# Altium schematic symbol library Digital.SchLib: 61 symbols (part 3 of 3)
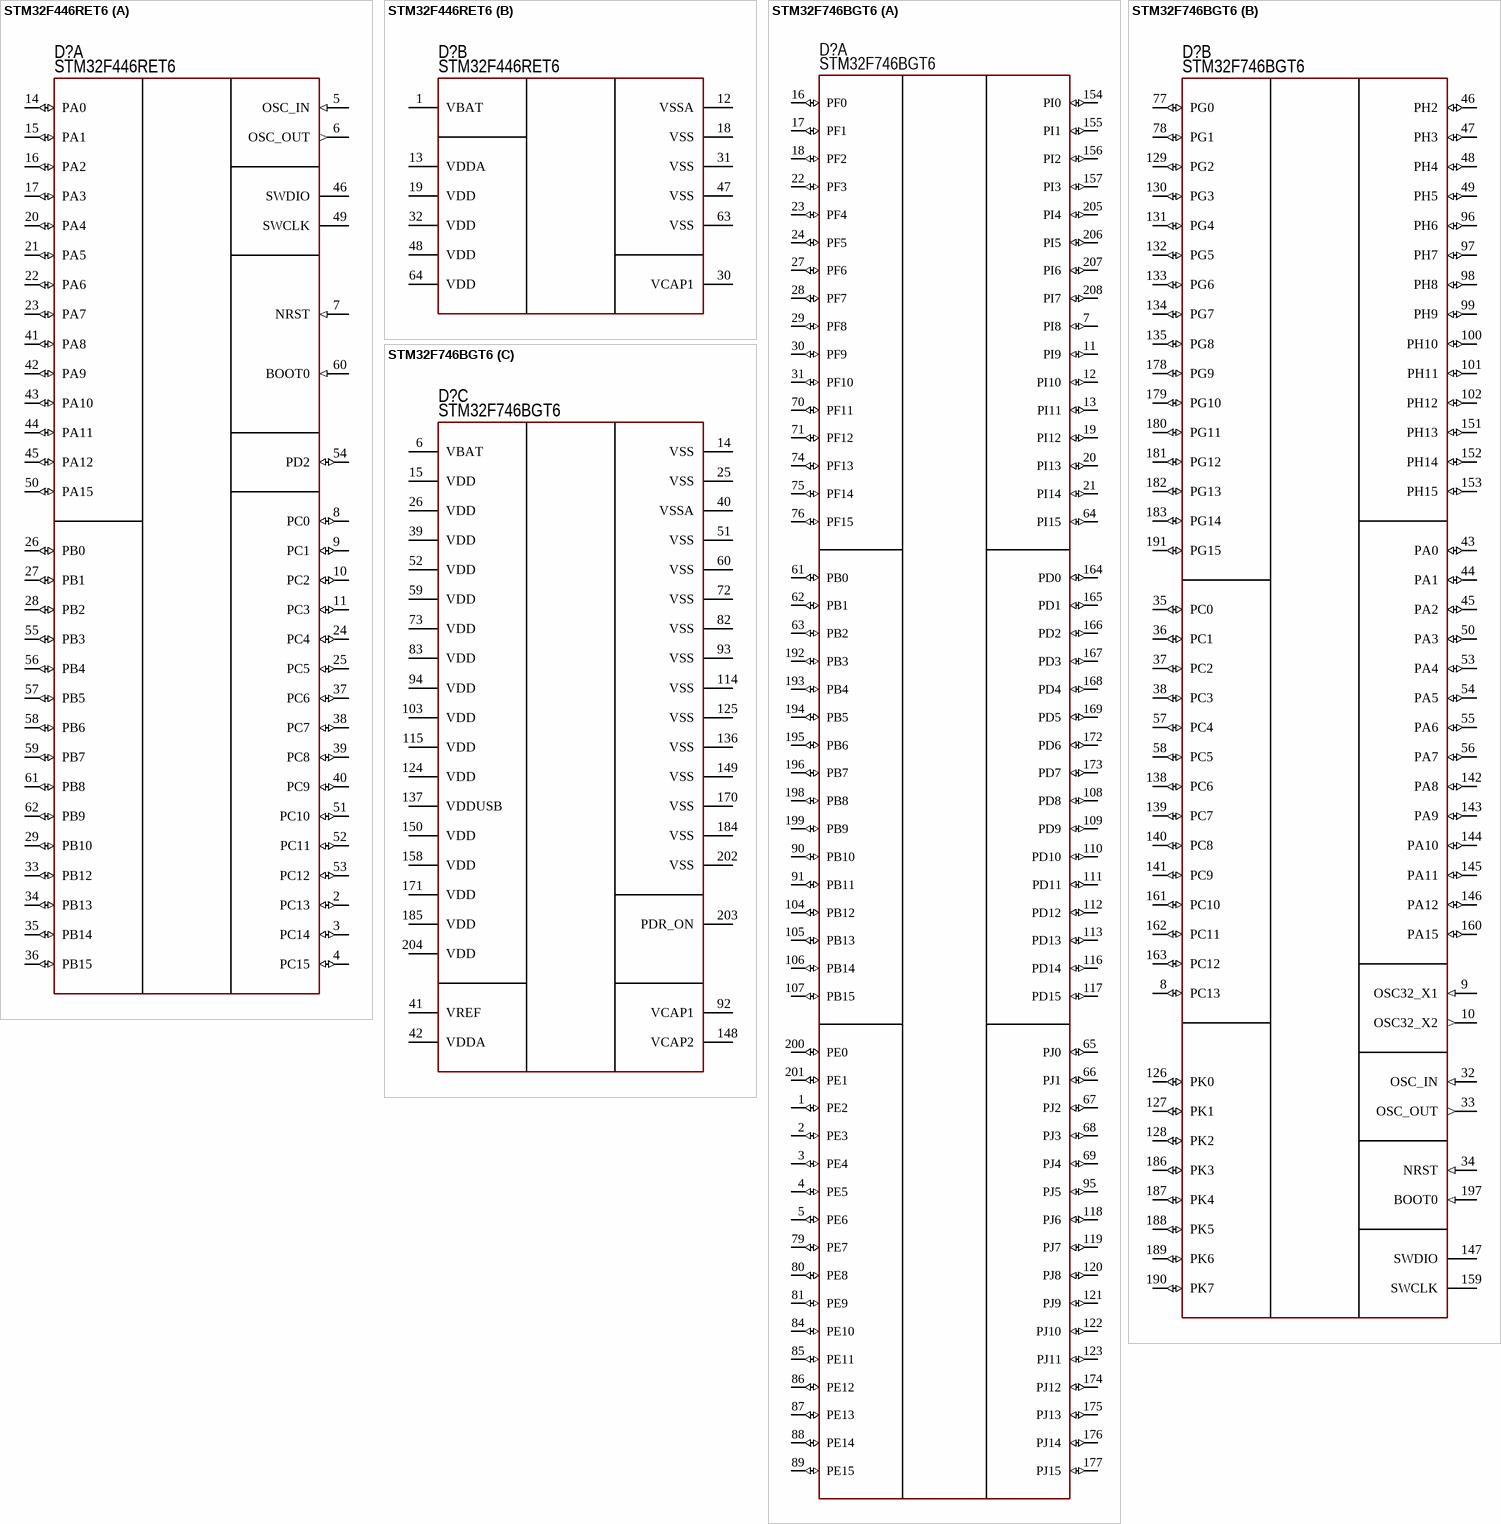
[diagram p30: symbols STM32F446RET6 to STM32F746BGT6]

## STM32F446RET6
designator D?
Cortex-M4; Manufacturer: STMicroelectronics; Model: STM32F446RET6; HelpURL: https://www.digikey.com/product-detail/en/stmicroelectronics/STM32F446RET6/497-15376-ND/5175962; ComponentKind: 64-LQFP
footprint 64-LQFP (Thin QFP, 64-Leads, Body 10x10mm, Pitch 0.5mm, IPC Medium Density)
part A pins: 2 PC13 (io), 3 PC14 (io), 4 PC15 (io), 5 OSC_IN (in), 6 OSC_OUT (out), 7 NRST (in), 8 PC0 (io), 9 PC1 (io), 10 PC2 (io), 11 PC3 (io), 14 PA0 (io), 15 PA1 (io), 16 PA2 (io), 17 PA3 (io), 20 PA4 (io), 21 PA5 (io), 22 PA6 (io), 23 PA7 (io), 24 PC4 (io), 25 PC5 (io), 26 PB0 (io), 27 PB1 (io), 28 PB2 (io), 29 PB10 (io), 33 PB12 (io), 34 PB13 (io), 35 PB14 (io), 36 PB15 (io), 37 PC6 (io), 38 PC7 (io), 39 PC8 (io), 40 PC9 (io), 41 PA8 (io), 42 PA9 (io), 43 PA10 (io), 44 PA11 (io), 45 PA12 (io), 46 SWDIO, 49 SWCLK, 50 PA15 (io), 51 PC10 (io), 52 PC11 (io), 53 PC12 (io), 54 PD2 (io), 55 PB3 (io), 56 PB4 (io), 57 PB5 (io), 58 PB6 (io), 59 PB7 (io), 60 BOOT0 (in), 61 PB8 (io), 62 PB9 (io)
part B pins: 1 VBAT, 12 VSSA, 13 VDDA, 18 VSS, 19 VDD, 30 VCAP1, 31 VSS, 32 VDD, 47 VSS, 48 VDD, 63 VSS, 64 VDD

## STM32F746BGT6
designator D?
Cortex-M7; Manufacturer: STMicroelectronics; Model: STM32F746BGT6; Datasheet: https://www.digikey.com/products/en?keywords=STM32F746BGT6; ComponentKind: 208-LQFP
footprint 208-LQFP (QFP, 208-Leads, Body 28x28mm, Pitch 0.5mm, IPC Medium Density)
part A pins: 1 PE2 (io), 2 PE3 (io), 3 PE4 (io), 4 PE5 (io), 5 PE6 (io), 7 PI8 (io), 11 PI9 (io), 12 PI10 (io), 13 PI11 (io), 16 PF0 (io), 17 PF1 (io), 18 PF2 (io), 19 PI12 (io), 20 PI13 (io), 21 PI14 (io), 22 PF3 (io), 23 PF4 (io), 24 PF5 (io), 27 PF6 (io), 28 PF7 (io), 29 PF8 (io), 30 PF9 (io), 31 PF10 (io), 61 PB0 (io), 62 PB1 (io), 63 PB2 (io), 64 PI15 (io), 65 PJ0 (io), 66 PJ1 (io), 67 PJ2 (io), 68 PJ3 (io), 69 PJ4 (io), 70 PF11 (io), 71 PF12 (io), 74 PF13 (io), 75 PF14 (io), 76 PF15 (io), 79 PE7 (io), 80 PE8 (io), 81 PE9 (io), 84 PE10 (io), 85 PE11 (io), 86 PE12 (io), 87 PE13 (io), 88 PE14 (io), 89 PE15 (io), 90 PB10 (io), 91 PB11 (io), 95 PJ5 (io), 104 PB12 (io), 105 PB13 (io), 106 PB14 (io), 107 PB15 (io), 108 PD8 (io), 109 PD9 (io), 110 PD10 (io), 111 PD11 (io), 112 PD12 (io), 113 PD13 (io), 116 PD14 (io), 117 PD15 (io), 118 PJ6 (io), 119 PJ7 (io), 120 PJ8 (io), 121 PJ9 (io), 122 PJ10 (io), 123 PJ11 (io), 154 PI0 (io), 155 PI1 (io), 156 PI2 (io), 157 PI3 (io), 164 PD0 (io), 165 PD1 (io), 166 PD2 (io), 167 PD3 (io), 168 PD4 (io), 169 PD5 (io), 172 PD6 (io), 173 PD7 (io), 174 PJ12 (io), 175 PJ13 (io), 176 PJ14 (io), 177 PJ15 (io), 192 PB3 (io), 193 PB4 (io), 194 PB5 (io), 195 PB6 (io), 196 PB7 (io), 198 PB8 (io), 199 PB9 (io), 200 PE0 (io), 201 PE1 (io), 205 PI4 (io), 206 PI5 (io), 207 PI6 (io), 208 PI7 (io)
part B pins: 8 PC13 (io), 9 OSC32_X1 (in), 10 OSC32_X2 (out), 32 OSC_IN (in), 33 OSC_OUT (out), 34 NRST (in), 35 PC0 (io), 36 PC1 (io), 37 PC2 (io), 38 PC3 (io), 43 PA0 (io), 44 PA1 (io), 45 PA2 (io), 46 PH2 (io), 47 PH3 (io), 48 PH4 (io), 49 PH5 (io), 50 PA3 (io), 53 PA4 (io), 54 PA5 (io), 55 PA6 (io), 56 PA7 (io), 57 PC4 (io), 58 PC5 (io), 77 PG0 (io), 78 PG1 (io), 96 PH6 (io), 97 PH7 (io), 98 PH8 (io), 99 PH9 (io), 100 PH10 (io), 101 PH11 (io), 102 PH12 (io), 126 PK0 (io), 127 PK1 (io), 128 PK2 (io), 129 PG2 (io), 130 PG3 (io), 131 PG4 (io), 132 PG5 (io), 133 PG6 (io), 134 PG7 (io), 135 PG8 (io), 138 PC6 (io), 139 PC7 (io), 140 PC8 (io), 141 PC9 (io), 142 PA8 (io), 143 PA9 (io), 144 PA10 (io), 145 PA11 (io), 146 PA12 (io), 147 SWDIO, 151 PH13 (io), 152 PH14 (io), 153 PH15 (io), 159 SWCLK, 160 PA15 (io), 161 PC10 (io), 162 PC11 (io), 163 PC12 (io), 178 PG9 (io), 179 PG10 (io), 180 PG11 (io), 181 PG12 (io), 182 PG13 (io), 183 PG14 (io), 186 PK3 (io), 187 PK4 (io), 188 PK5 (io), 189 PK6 (io), 190 PK7 (io), 191 PG15 (io), 197 BOOT0 (in)
part C pins: 6 VBAT, 14 VSS, 15 VDD, 25 VSS, 26 VDD, 39 VDD, 40 VSSA, 41 VREF, 42 VDDA, 51 VSS, 52 VDD, 59 VDD, 60 VSS, 72 VSS, 73 VDD, 82 VSS, 83 VDD, 92 VCAP1, 93 VSS, 94 VDD, 103 VDD, 114 VSS, 115 VDD, 124 VDD, 125 VSS, 136 VSS, 137 VDDUSB, 148 VCAP2, 149 VSS, 150 VDD, 158 VDD, 170 VSS, 171 VDD, 184 VSS, 185 VDD, 202 VSS, 203 PDR_ON, 204 VDD

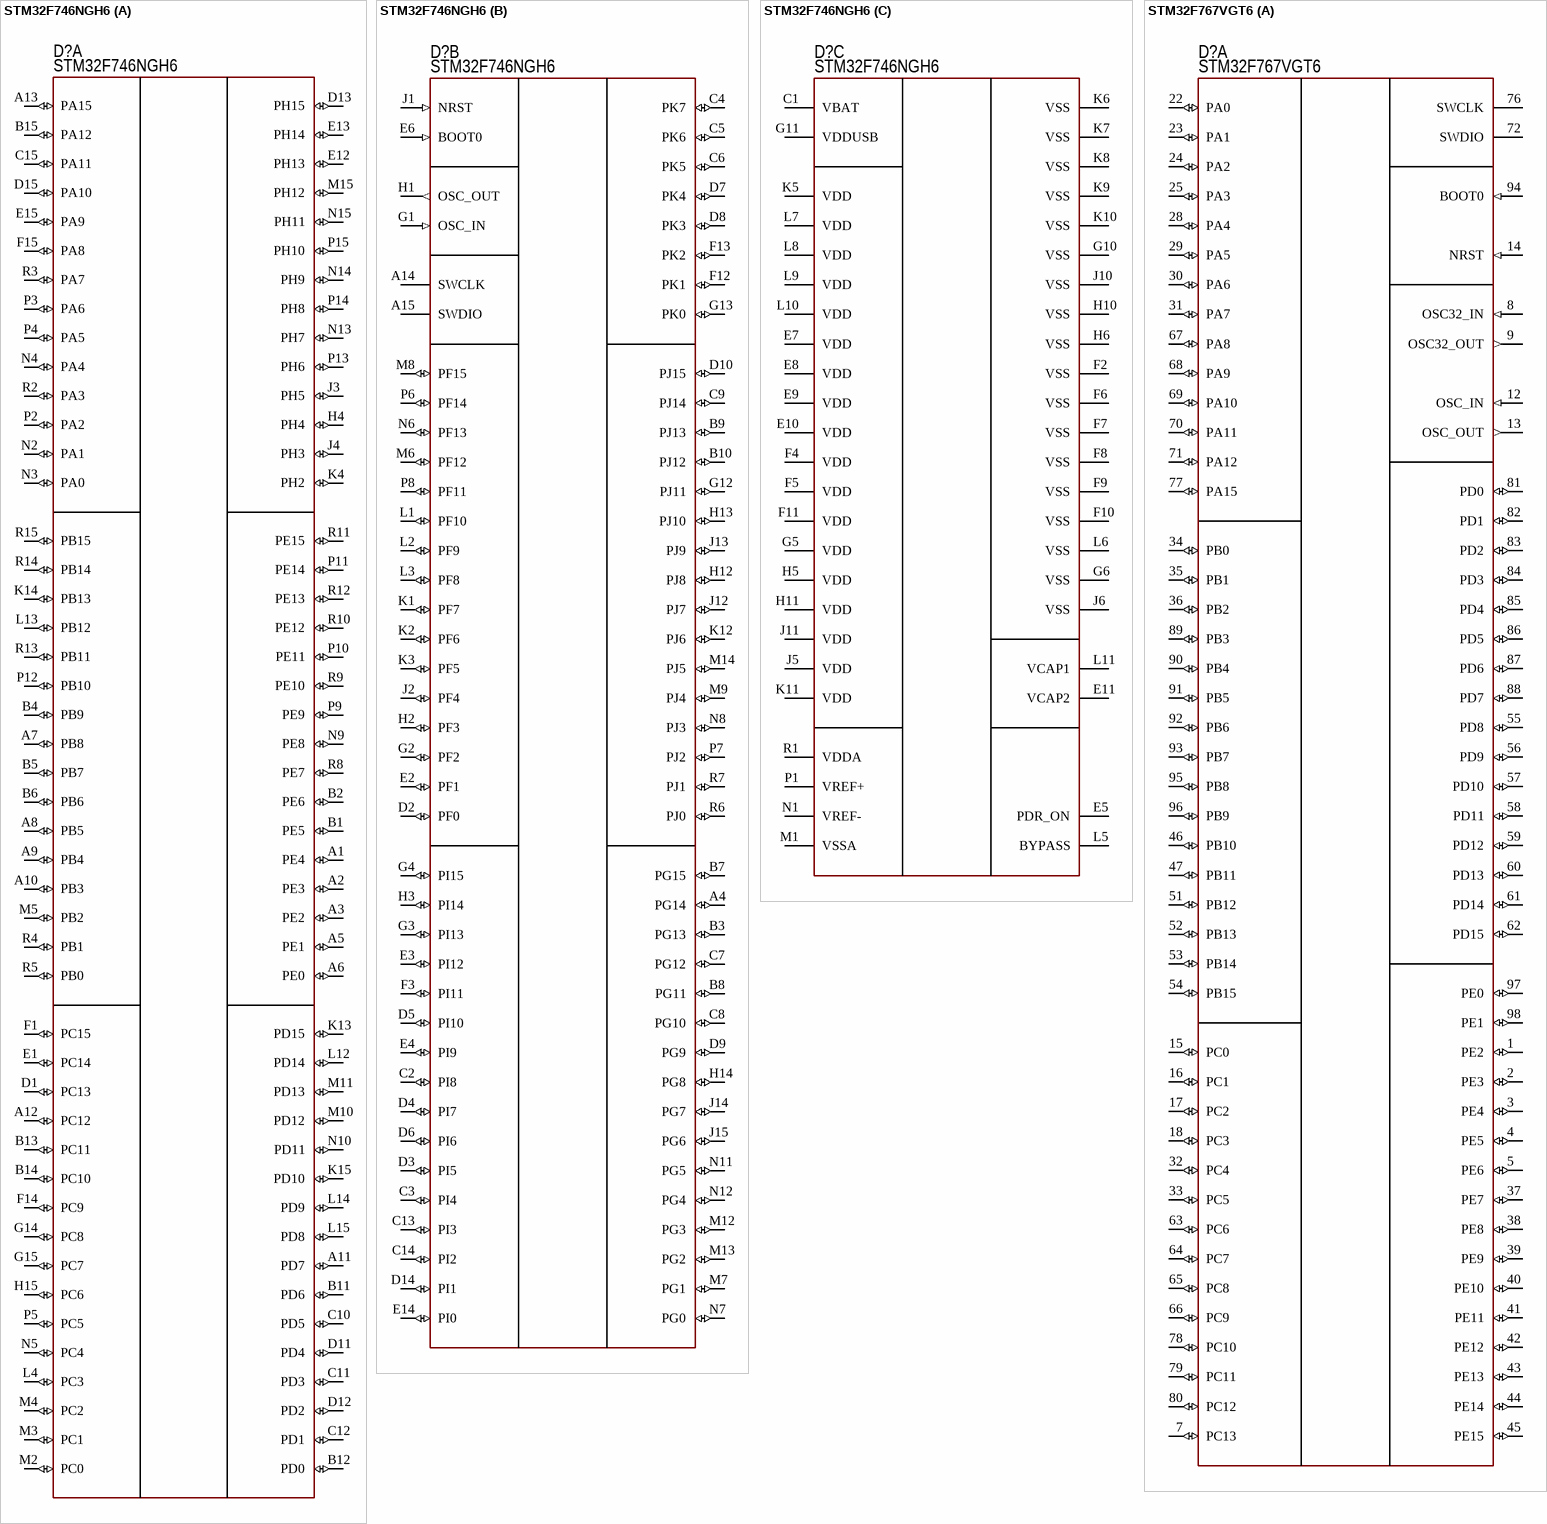
[diagram p21: symbols STM32F746NGH6 to STM32F767VGT6]

## STM32F746NGH6
designator D?
Cortex-M7; Manufacturer: STMicroelectronics; Model: STM32F746NGH6; ComponentKind: 216-TFBGA; HelpURL: https://www.digikey.com/products/en?keywords=STM32F746NGH6
footprint 216-TFBGA (BGA, 216-Balls, Body 13x13mm, Pitch 0.8mm)
part A pins: A1 PE4 (io), A2 PE3 (io), A3 PE2 (io), A5 PE1 (io), A6 PE0 (io), A7 PB8 (io), A8 PB5 (io), A9 PB4 (io), A10 PB3 (io), A11 PD7 (io), A12 PC12 (io), A13 PA15 (io), B1 PE5 (io), B2 PE6 (io), B4 PB9 (io), B5 PB7 (io), B6 PB6 (io), B11 PD6 (io), B12 PD0 (io), B13 PC11 (io), B14 PC10 (io), B15 PA12 (io), C10 PD5 (io), C11 PD3 (io), C12 PD1 (io), C15 PA11 (io), D1 PC13 (io), D11 PD4 (io), D12 PD2 (io), D13 PH15 (io), D15 PA10 (io), E1 PC14 (io), E12 PH13 (io), E13 PH14 (io), E15 PA9 (io), F1 PC15 (io), F14 PC9 (io), F15 PA8 (io), G14 PC8 (io), G15 PC7 (io), H4 PH4 (io), H15 PC6 (io), J3 PH5 (io), J4 PH3 (io), K4 PH2 (io), K13 PD15 (io), K14 PB13 (io), K15 PD10 (io), L4 PC3 (io), L12 PD14 (io), L13 PB12 (io), L14 PD9 (io), L15 PD8 (io), M2 PC0 (io), M3 PC1 (io), M4 PC2 (io), M5 PB2 (io), M10 PD12 (io), M11 PD13 (io), M15 PH12 (io), N2 PA1 (io), N3 PA0 (io), N4 PA4 (io), N5 PC4 (io), N9 PE8 (io), N10 PD11 (io), N13 PH7 (io), N14 PH9 (io), N15 PH11 (io), P2 PA2 (io), P3 PA6 (io), P4 PA5 (io), P5 PC5 (io), P9 PE9 (io), P10 PE11 (io), P11 PE14 (io), P12 PB10 (io), P13 PH6 (io), P14 PH8 (io), P15 PH10 (io), R2 PA3 (io), R3 PA7 (io), R4 PB1 (io), R5 PB0 (io), R8 PE7 (io), R9 PE10 (io), R10 PE12 (io), R11 PE15 (io), R12 PE13 (io), R13 PB11 (io), R14 PB14 (io), R15 PB15 (io)
part B pins: A4 PG14 (io), A14 SWCLK, A15 SWDIO, B3 PG13 (io), B7 PG15 (io), B8 PG11 (io), B9 PJ13 (io), B10 PJ12 (io), C2 PI8 (io), C3 PI4 (io), C4 PK7 (io), C5 PK6 (io), C6 PK5 (io), C7 PG12 (io), C8 PG10 (io), C9 PJ14 (io), C13 PI3 (io), C14 PI2 (io), D2 PF0 (io), D3 PI5 (io), D4 PI7 (io), D5 PI10 (io), D6 PI6 (io), D7 PK4 (io), D8 PK3 (io), D9 PG9 (io), D10 PJ15 (io), D14 PI1 (io), E2 PF1 (io), E3 PI12 (io), E4 PI9 (io), E6 BOOT0 (in), E14 PI0 (io), F3 PI11 (io), F12 PK1 (io), F13 PK2 (io), G1 OSC_IN (in), G2 PF2 (io), G3 PI13 (io), G4 PI15 (io), G12 PJ11 (io), G13 PK0 (io), H1 OSC_OUT (out), H2 PF3 (io), H3 PI14 (io), H12 PJ8 (io), H13 PJ10 (io), H14 PG8 (io), J1 NRST (in), J2 PF4 (io), J12 PJ7 (io), J13 PJ9 (io), J14 PG7 (io), J15 PG6 (io), K1 PF7 (io), K2 PF6 (io), K3 PF5 (io), K12 PJ6 (io), L1 PF10 (io), L2 PF9 (io), L3 PF8 (io), M6 PF12 (io), M7 PG1 (io), M8 PF15 (io), M9 PJ4 (io), M12 PG3 (io), M13 PG2 (io), M14 PJ5 (io), N6 PF13 (io), N7 PG0 (io), N8 PJ3 (io), N11 PG5 (io), N12 PG4 (io), P6 PF14 (io), P7 PJ2 (io), P8 PF11 (io), R6 PJ0 (io), R7 PJ1 (io)
part C pins: C1 VBAT (power), E5 PDR_ON (power), E7 VDD (power), E8 VDD (power), E9 VDD (power), E10 VDD (power), E11 VCAP2 (power), F2 VSS (power), F4 VDD (power), F5 VDD (power), F6 VSS (power), F7 VSS (power), F8 VSS (power), F9 VSS (power), F10 VSS (power), F11 VDD (power), G5 VDD (power), G6 VSS (power), G10 VSS (power), G11 VDDUSB (power), H5 VDD (power), H6 VSS (power), H10 VSS (power), H11 VDD (power), J5 VDD (power), J6 VSS (power), J10 VSS (power), J11 VDD (power), K5 VDD (power), K6 VSS (power), K7 VSS (power), K8 VSS (power), K9 VSS (power), K10 VSS (power), K11 VDD (power), L5 BYPASS (power), L6 VSS (power), L7 VDD (power), L8 VDD (power), L9 VDD (power), L10 VDD (power), L11 VCAP1 (power), M1 VSSA (power), N1 VREF- (power), P1 VREF+ (power), R1 VDDA (power)

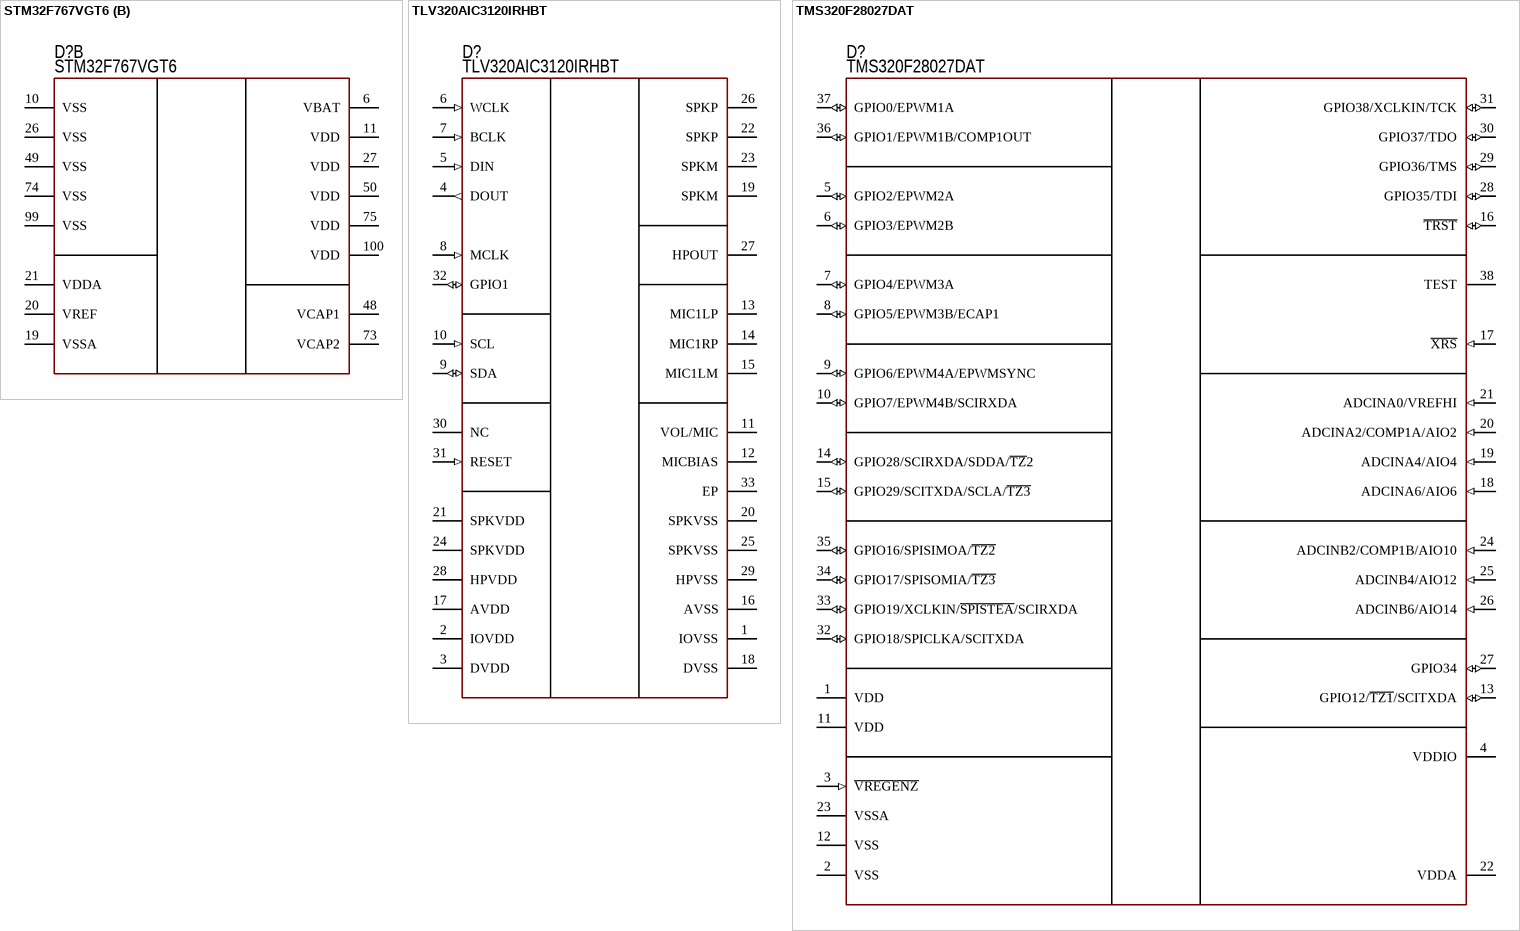
[diagram p22: symbols STM32F767VGT6 to TMS320F28027DAT]

## STM32F767VGT6
designator D?
Cortex-M7; Manufacturer: STMicroelectronics; Model: STM32F767VGT6; HelpURL: https://www.digikey.com/products/en?keywords=STM32F767VGT6; ComponentKind: 100-LQFP
footprint 100-LQFP (Thin QFP, 100-Leads, Body 14x14mm, Pitch 0.5mm, IPC Medium Density)
part A pins: 1 PE2 (io), 2 PE3 (io), 3 PE4 (io), 4 PE5 (io), 5 PE6 (io), 7 PC13 (io), 8 OSC32_IN (in), 9 OSC32_OUT (out), 12 OSC_IN (in), 13 OSC_OUT (out), 14 NRST (in), 15 PC0 (io), 16 PC1 (io), 17 PC2 (io), 18 PC3 (io), 22 PA0 (io), 23 PA1 (io), 24 PA2 (io), 25 PA3 (io), 28 PA4 (io), 29 PA5 (io), 30 PA6 (io), 31 PA7 (io), 32 PC4 (io), 33 PC5 (io), 34 PB0 (io), 35 PB1 (io), 36 PB2 (io), 37 PE7 (io), 38 PE8 (io), 39 PE9 (io), 40 PE10 (io), 41 PE11 (io), 42 PE12 (io), 43 PE13 (io), 44 PE14 (io), 45 PE15 (io), 46 PB10 (io), 47 PB11 (io), 51 PB12 (io), 52 PB13 (io), 53 PB14 (io), 54 PB15 (io), 55 PD8 (io), 56 PD9 (io), 57 PD10 (io), 58 PD11 (io), 59 PD12 (io), 60 PD13 (io), 61 PD14 (io), 62 PD15 (io), 63 PC6 (io), 64 PC7 (io), 65 PC8 (io), 66 PC9 (io), 67 PA8 (io), 68 PA9 (io), 69 PA10 (io), 70 PA11 (io), 71 PA12 (io), 72 SWDIO, 76 SWCLK, 77 PA15 (io), 78 PC10 (io), 79 PC11 (io), 80 PC12 (io), 81 PD0 (io), 82 PD1 (io), 83 PD2 (io), 84 PD3 (io), 85 PD4 (io), 86 PD5 (io), 87 PD6 (io), 88 PD7 (io), 89 PB3 (io), 90 PB4 (io), 91 PB5 (io), 92 PB6 (io), 93 PB7 (io), 94 BOOT0 (in), 95 PB8 (io), 96 PB9 (io), 97 PE0 (io), 98 PE1 (io)
part B pins: 6 VBAT (power), 10 VSS (power), 11 VDD (power), 19 VSSA (power), 20 VREF (power), 21 VDDA (power), 26 VSS (power), 27 VDD (power), 48 VCAP1 (power), 49 VSS (power), 50 VDD (power), 73 VCAP2 (power), 74 VSS (power), 75 VDD (power), 99 VSS (power), 100 VDD (power)

## TLV320AIC3120IRHBT
designator D?
Codec; Manufacturer: Texas Instruments; Model: TLV320AIC3120IRHBT; ComponentKind: 32-VQFN; HelpURL: https://www.digikey.com/product-detail/en/texas-instruments/TLV320AIC3120IRHBT/296-25815-1-ND/2233636
footprint 32-VQFN (5x5 mm) (QFN, 32-Leads, Body 5x5mm, Pitch 0.5mm, Thermal Pad 3.45x3.45mm, TI Recommended)
pins: 1 IOVSS, 2 IOVDD, 3 DVDD, 4 DOUT (out), 5 DIN (in), 6 WCLK (in), 7 BCLK (in), 8 MCLK (in), 9 SDA (io), 10 SCL (in), 11 VOL/MIC, 12 MICBIAS, 13 MIC1LP, 14 MIC1RP, 15 MIC1LM, 16 AVSS, 17 AVDD, 18 DVSS, 19 SPKM, 20 SPKVSS, 21 SPKVDD, 22 SPKP, 23 SPKM, 24 SPKVDD, 25 SPKVSS, 26 SPKP, 27 HPOUT, 28 HPVDD, 29 HPVSS, 30 NC, 31 RESET (in), 32 GPIO1 (io), 33 EP

## TMS320F28027DAT
designator D?
DSP; Manufacturer: Texas Instruments; Model: TMS320F28027DAT; HelpURL: https://www.digikey.com/product-detail/en/texas-instruments/TMS320F28027DAT/296-27294-5-ND/2232671; ComponentKind: 38-TSSOP
footprint 38-TSSOP
pins: 1 VDD (power), 2 VSS (power), 3 ~{VREGENZ} (in), 4 VDDIO (power), 5 GPIO2/EPWM2A (io), 6 GPIO3/EPWM2B (io), 7 GPIO4/EPWM3A (io), 8 GPIO5/EPWM3B/ECAP1 (io), 9 GPIO6/EPWM4A/EPWMSYNC (io), 10 GPIO7/EPWM4B/SCIRXDA (io), 11 VDD (power), 12 VSS (power), 13 GPIO12/~{TZ1}/SCITXDA (io), 14 GPIO28/SCIRXDA/SDDA/~{TZ}2 (io), 15 GPIO29/SCITXDA/SCLA/~{TZ3} (io), 16 ~{TRST} (io), 17 ~{XRS} (in), 18 ADCINA6/AIO6 (in), 19 ADCINA4/AIO4 (in), 20 ADCINA2/COMP1A/AIO2 (in), 21 ADCINA0/VREFHI (in), 22 VDDA (power), 23 VSSA (power), 24 ADCINB2/COMP1B/AIO10 (in), 25 ADCINB4/AIO12 (in), 26 ADCINB6/AIO14 (in), 27 GPIO34 (io), 28 GPIO35/TDI (io), 29 GPIO36/TMS (io), 30 GPIO37/TDO (io), 31 GPIO38/XCLKIN/TCK (io), 32 GPIO18/SPICLKA/SCITXDA (io), 33 GPIO19/XCLKIN/~{SPISTEA}/SCIRXDA (io), 34 GPIO17/SPISOMIA/~{TZ3} (io), 35 GPIO16/SPISIMOA/~{TZ2} (io), 36 GPIO1/EPWM1B/COMP1OUT (io), 37 GPIO0/EPWM1A (io), 38 TEST

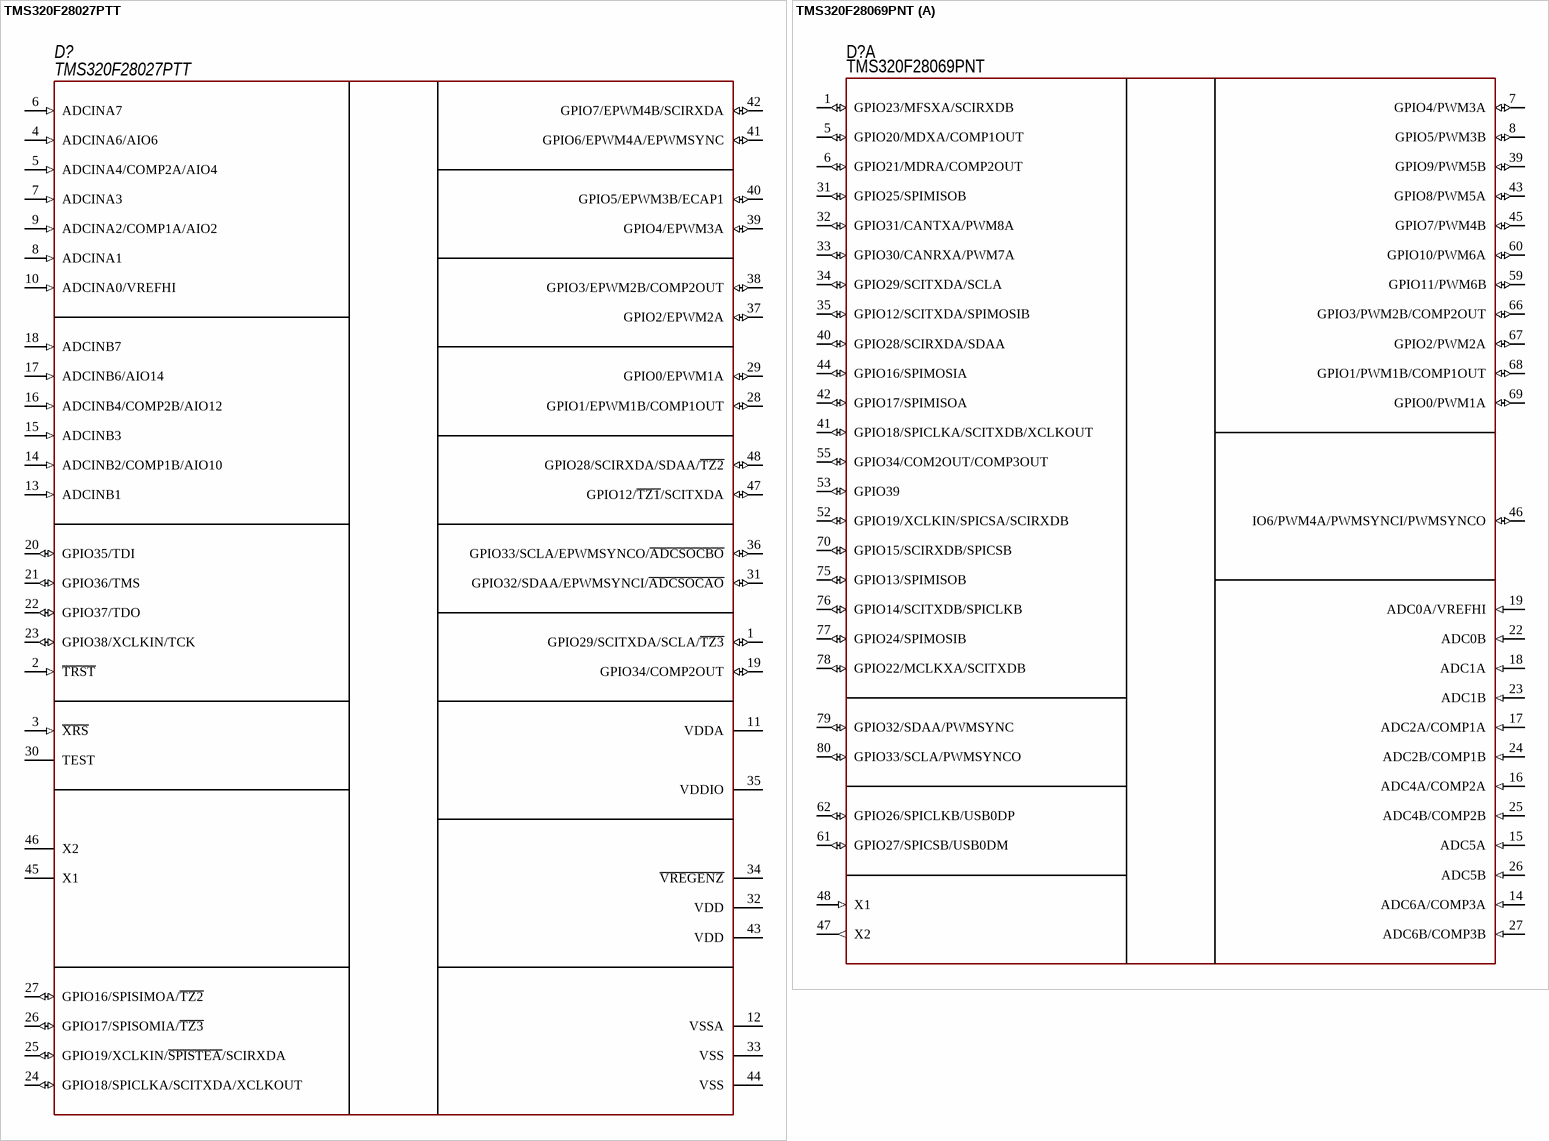
[diagram p23: symbols TMS320F28027PTT to TMS320F28069PNT]

## TMS320F28027PTT
designator D?
DSP; Manufacturer: Texas Instruments; Model: TMS320F28027PTT; HelpURL: https://www.digikey.com/product-detail/en/texas-instruments/TMS320F28027PTT/296-27212-ND/2232674; ComponentKind: 48-LQFP
footprint 48-LQFP (QFP, 48-Leads, Body 7x7mm, Pitch 0.5mm, IPC Medium Density)
pins: 1 GPIO29/SCITXDA/SCLA/~{TZ3} (io), 2 ~{TRST} (in), 3 ~{XRS} (in), 4 ADCINA6/AIO6 (in), 5 ADCINA4/COMP2A/AIO4 (in), 6 ADCINA7 (in), 7 ADCINA3 (in), 8 ADCINA1 (in), 9 ADCINA2/COMP1A/AIO2 (in), 10 ADCINA0/VREFHI (in), 11 VDDA, 12 VSSA, 13 ADCINB1 (in), 14 ADCINB2/COMP1B/AIO10 (in), 15 ADCINB3 (in), 16 ADCINB4/COMP2B/AIO12 (in), 17 ADCINB6/AIO14 (in), 18 ADCINB7 (in), 19 GPIO34/COMP2OUT (io), 20 GPIO35/TDI (io), 21 GPIO36/TMS (io), 22 GPIO37/TDO (io), 23 GPIO38/XCLKIN/TCK (io), 24 GPIO18/SPICLKA/SCITXDA/XCLKOUT (io), 25 GPIO19/XCLKIN/~{SPISTEA}/SCIRXDA (io), 26 GPIO17/SPISOMIA/~{TZ3} (io), 27 GPIO16/SPISIMOA/~{TZ2} (io), 28 GPIO1/EPWM1B/COMP1OUT (io), 29 GPIO0/EPWM1A (io), 30 TEST, 31 GPIO32/SDAA/EPWMSYNCI/~{ADCSOCAO} (io), 32 VDD, 33 VSS, 34 ~{VREGENZ}, 35 VDDIO, 36 GPIO33/SCLA/EPWMSYNCO/~{ADCSOCBO} (io), 37 GPIO2/EPWM2A (io), 38 GPIO3/EPWM2B/COMP2OUT (io), 39 GPIO4/EPWM3A (io), 40 GPIO5/EPWM3B/ECAP1 (io), 41 GPIO6/EPWM4A/EPWMSYNC (io), 42 GPIO7/EPWM4B/SCIRXDA (io), 43 VDD, 44 VSS, 45 X1, 46 X2, 47 GPIO12/~{TZ1}/SCITXDA (io), 48 GPIO28/SCIRXDA/SDAA/~{TZ2} (io)

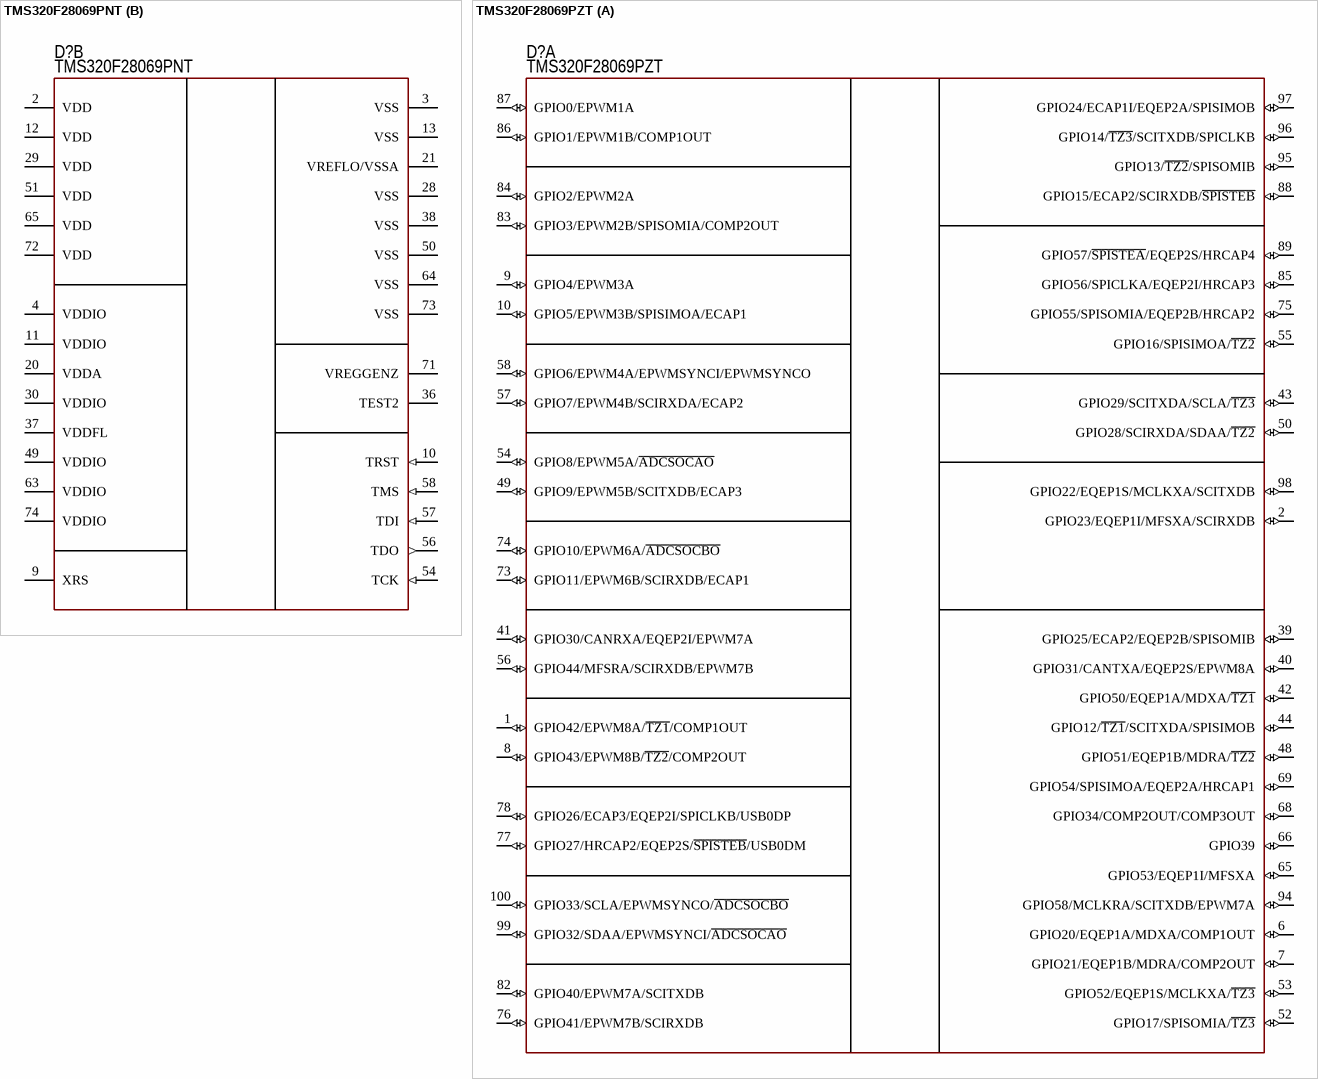
[diagram p24: symbols TMS320F28069PNT to TMS320F28069PZT]

## TMS320F28069PNT
designator D?
DSP; Manufacturer: Texas Instruments; Model: TMS320F28069PNT; HelpURL: https://www.digikey.com/products/en?keywords=TMS320F28069PNT; ComponentKind: 80-LQFP
footprint 80-LQFP
part A pins: 1 GPIO23/MFSXA/SCIRXDB (io), 5 GPIO20/MDXA/COMP1OUT (io), 6 GPIO21/MDRA/COMP2OUT (io), 7 GPIO4/PWM3A (io), 8 GPIO5/PWM3B (io), 14 ADC6A/COMP3A (in), 15 ADC5A (in), 16 ADC4A/COMP2A (in), 17 ADC2A/COMP1A (in), 18 ADC1A (in), 19 ADC0A/VREFHI (in), 22 ADC0B (in), 23 ADC1B (in), 24 ADC2B/COMP1B (in), 25 ADC4B/COMP2B (in), 26 ADC5B (in), 27 ADC6B/COMP3B (in), 31 GPIO25/SPIMISOB (io), 32 GPIO31/CANTXA/PWM8A (io), 33 GPIO30/CANRXA/PWM7A (io), 34 GPIO29/SCITXDA/SCLA (io), 35 GPIO12/SCITXDA/SPIMOSIB (io), 39 GPIO9/PWM5B (io), 40 GPIO28/SCIRXDA/SDAA (io), 41 GPIO18/SPICLKA/SCITXDB/XCLKOUT (io), 42 GPIO17/SPIMISOA (io), 43 GPIO8/PWM5A (io), 44 GPIO16/SPIMOSIA (io), 45 GPIO7/PWM4B (io), 46 IO6/PWM4A/PWMSYNCI/PWMSYNCO (io), 47 X2 (out), 48 X1 (in), 52 GPIO19/XCLKIN/SPICSA/SCIRXDB (io), 53 GPIO39 (io), 55 GPIO34/COM2OUT/COMP3OUT (io), 59 GPIO11/PWM6B (io), 60 GPIO10/PWM6A (io), 61 GPIO27/SPICSB/USB0DM (io), 62 GPIO26/SPICLKB/USB0DP (io), 66 GPIO3/PWM2B/COMP2OUT (io), 67 GPIO2/PWM2A (io), 68 GPIO1/PWM1B/COMP1OUT (io), 69 GPIO0/PWM1A (io), 70 GPIO15/SCIRXDB/SPICSB (io), 75 GPIO13/SPIMISOB (io), 76 GPIO14/SCITXDB/SPICLKB (io), 77 GPIO24/SPIMOSIB (io), 78 GPIO22/MCLKXA/SCITXDB (io), 79 GPIO32/SDAA/PWMSYNC (io), 80 GPIO33/SCLA/PWMSYNCO (io)
part B pins: 2 VDD, 3 VSS (power), 4 VDDIO (power), 9 XRS, 10 TRST (in), 11 VDDIO (power), 12 VDD (power), 13 VSS (power), 20 VDDA (power), 21 VREFLO/VSSA (power), 28 VSS (power), 29 VDD (power), 30 VDDIO (power), 36 TEST2, 37 VDDFL (power), 38 VSS (power), 49 VDDIO (power), 50 VSS (power), 51 VDD (power), 54 TCK (in), 56 TDO (out), 57 TDI (in), 58 TMS (in), 63 VDDIO (power), 64 VSS (power), 65 VDD (power), 71 VREGGENZ, 72 VDD (power), 73 VSS (power), 74 VDDIO (power)

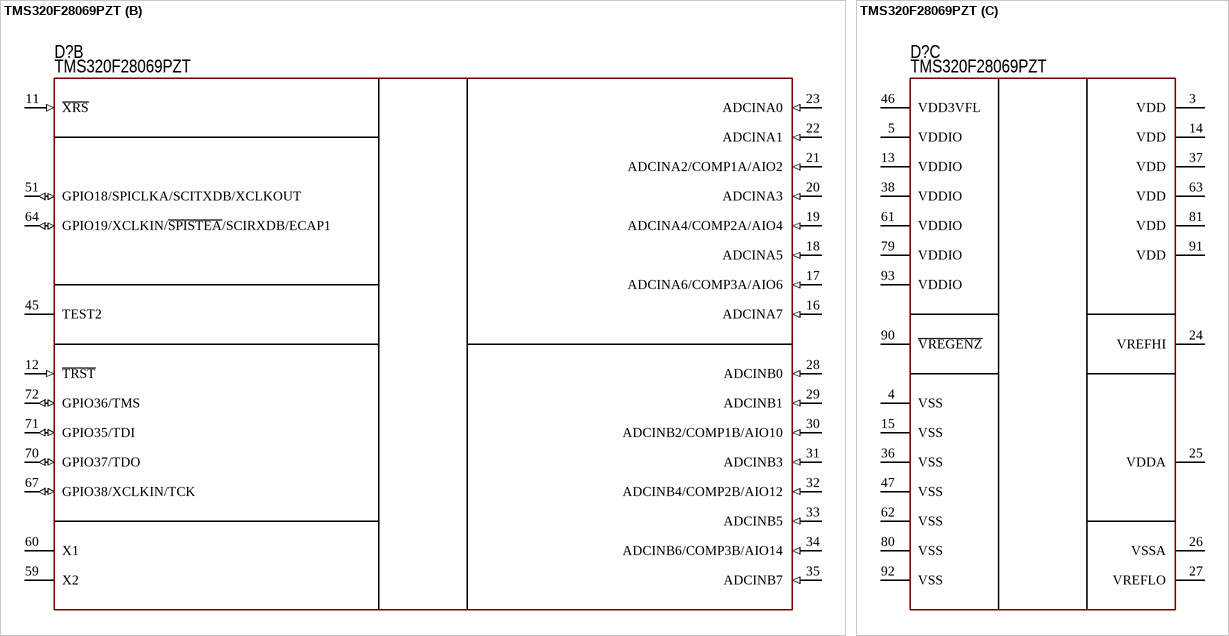
[diagram p25: symbol TMS320F28069PZT]

## TMS320F28069PZT
designator D?
DSP; Manufacturer: Texas Instruments; Model: TMS320F28069PZT; ComponentKind: 100-LQFP; HelpURL: https://www.digikey.com/product-detail/en/texas-instruments/TMS320F28069PZT/296-32765-ND/2797976
footprint 100-LQFP (Thin QFP, 100-Leads, Body 14x14mm, Pitch 0.5mm, IPC Medium Density)
part A pins: 1 GPIO42/EPWM8A/~{TZ1}/COMP1OUT (io), 2 GPIO23/EQEP1I/MFSXA/SCIRXDB (io), 6 GPIO20/EQEP1A/MDXA/COMP1OUT (io), 7 GPIO21/EQEP1B/MDRA/COMP2OUT (io), 8 GPIO43/EPWM8B/~{TZ2}/COMP2OUT (io), 9 GPIO4/EPWM3A (io), 10 GPIO5/EPWM3B/SPISIMOA/ECAP1 (io), 39 GPIO25/ECAP2/EQEP2B/SPISOMIB (io), 40 GPIO31/CANTXA/EQEP2S/EPWM8A (io), 41 GPIO30/CANRXA/EQEP2I/EPWM7A (io), 42 GPIO50/EQEP1A/MDXA/~{TZ1} (io), 43 GPIO29/SCITXDA/SCLA/~{TZ3} (io), 44 GPIO12/~{TZ1}/SCITXDA/SPISIMOB (io), 48 GPIO51/EQEP1B/MDRA/~{TZ2} (io), 49 GPIO9/EPWM5B/SCITXDB/ECAP3 (io), 50 GPIO28/SCIRXDA/SDAA/~{TZ2} (io), 52 GPIO17/SPISOMIA/~{TZ3} (io), 53 GPIO52/EQEP1S/MCLKXA/~{TZ3} (io), 54 GPIO8/EPWM5A/~{ADCSOCAO} (io), 55 GPIO16/SPISIMOA/~{TZ2} (io), 56 GPIO44/MFSRA/SCIRXDB/EPWM7B (io), 57 GPIO7/EPWM4B/SCIRXDA/ECAP2 (io), 58 GPIO6/EPWM4A/EPWMSYNCI/EPWMSYNCO (io), 65 GPIO53/EQEP1I/MFSXA (io), 66 GPIO39 (io), 68 GPIO34/COMP2OUT/COMP3OUT (io), 69 GPIO54/SPISIMOA/EQEP2A/HRCAP1 (io), 73 GPIO11/EPWM6B/SCIRXDB/ECAP1 (io), 74 GPIO10/EPWM6A/~{ADCSOCBO} (io), 75 GPIO55/SPISOMIA/EQEP2B/HRCAP2 (io), 76 GPIO41/EPWM7B/SCIRXDB (io), 77 GPIO27/HRCAP2/EQEP2S/~{SPISTEB}/USB0DM (io), 78 GPIO26/ECAP3/EQEP2I/SPICLKB/USB0DP (io), 82 GPIO40/EPWM7A/SCITXDB (io), 83 GPIO3/EPWM2B/SPISOMIA/COMP2OUT (io), 84 GPIO2/EPWM2A (io), 85 GPIO56/SPICLKA/EQEP2I/HRCAP3 (io), 86 GPIO1/EPWM1B/COMP1OUT (io), 87 GPIO0/EPWM1A (io), 88 GPIO15/ECAP2/SCIRXDB/~{SPISTEB} (io), 89 GPIO57/~{SPISTEA}/EQEP2S/HRCAP4 (io), 94 GPIO58/MCLKRA/SCITXDB/EPWM7A (io), 95 GPIO13/~{TZ2}/SPISOMIB (io), 96 GPIO14/~{TZ3}/SCITXDB/SPICLKB (io), 97 GPIO24/ECAP1I/EQEP2A/SPISIMOB (io), 98 GPIO22/EQEP1S/MCLKXA/SCITXDB (io), 99 GPIO32/SDAA/EPWMSYNCI/~{ADCSOCAO} (io), 100 GPIO33/SCLA/EPWMSYNCO/~{ADCSOCBO} (io)
part B pins: 11 ~{XRS} (in), 12 ~{TRST} (in), 16 ADCINA7 (in), 17 ADCINA6/COMP3A/AIO6 (in), 18 ADCINA5 (in), 19 ADCINA4/COMP2A/AIO4 (in), 20 ADCINA3 (in), 21 ADCINA2/COMP1A/AIO2 (in), 22 ADCINA1 (in), 23 ADCINA0 (in), 28 ADCINB0 (in), 29 ADCINB1 (in), 30 ADCINB2/COMP1B/AIO10 (in), 31 ADCINB3 (in), 32 ADCINB4/COMP2B/AIO12 (in), 33 ADCINB5 (in), 34 ADCINB6/COMP3B/AIO14 (in), 35 ADCINB7 (in), 45 TEST2, 51 GPIO18/SPICLKA/SCITXDB/XCLKOUT (io), 59 X2, 60 X1, 64 GPIO19/XCLKIN/~{SPISTEA}/SCIRXDB/ECAP1 (io), 67 GPIO38/XCLKIN/TCK (io), 70 GPIO37/TDO (io), 71 GPIO35/TDI (io), 72 GPIO36/TMS (io)
part C pins: 3 VDD, 4 VSS, 5 VDDIO, 13 VDDIO, 14 VDD, 15 VSS, 24 VREFHI, 25 VDDA, 26 VSSA, 27 VREFLO, 36 VSS, 37 VDD, 38 VDDIO, 46 VDD3VFL, 47 VSS, 61 VDDIO, 62 VSS, 63 VDD, 79 VDDIO, 80 VSS, 81 VDD, 90 ~{VREGENZ}, 91 VDD, 92 VSS, 93 VDDIO

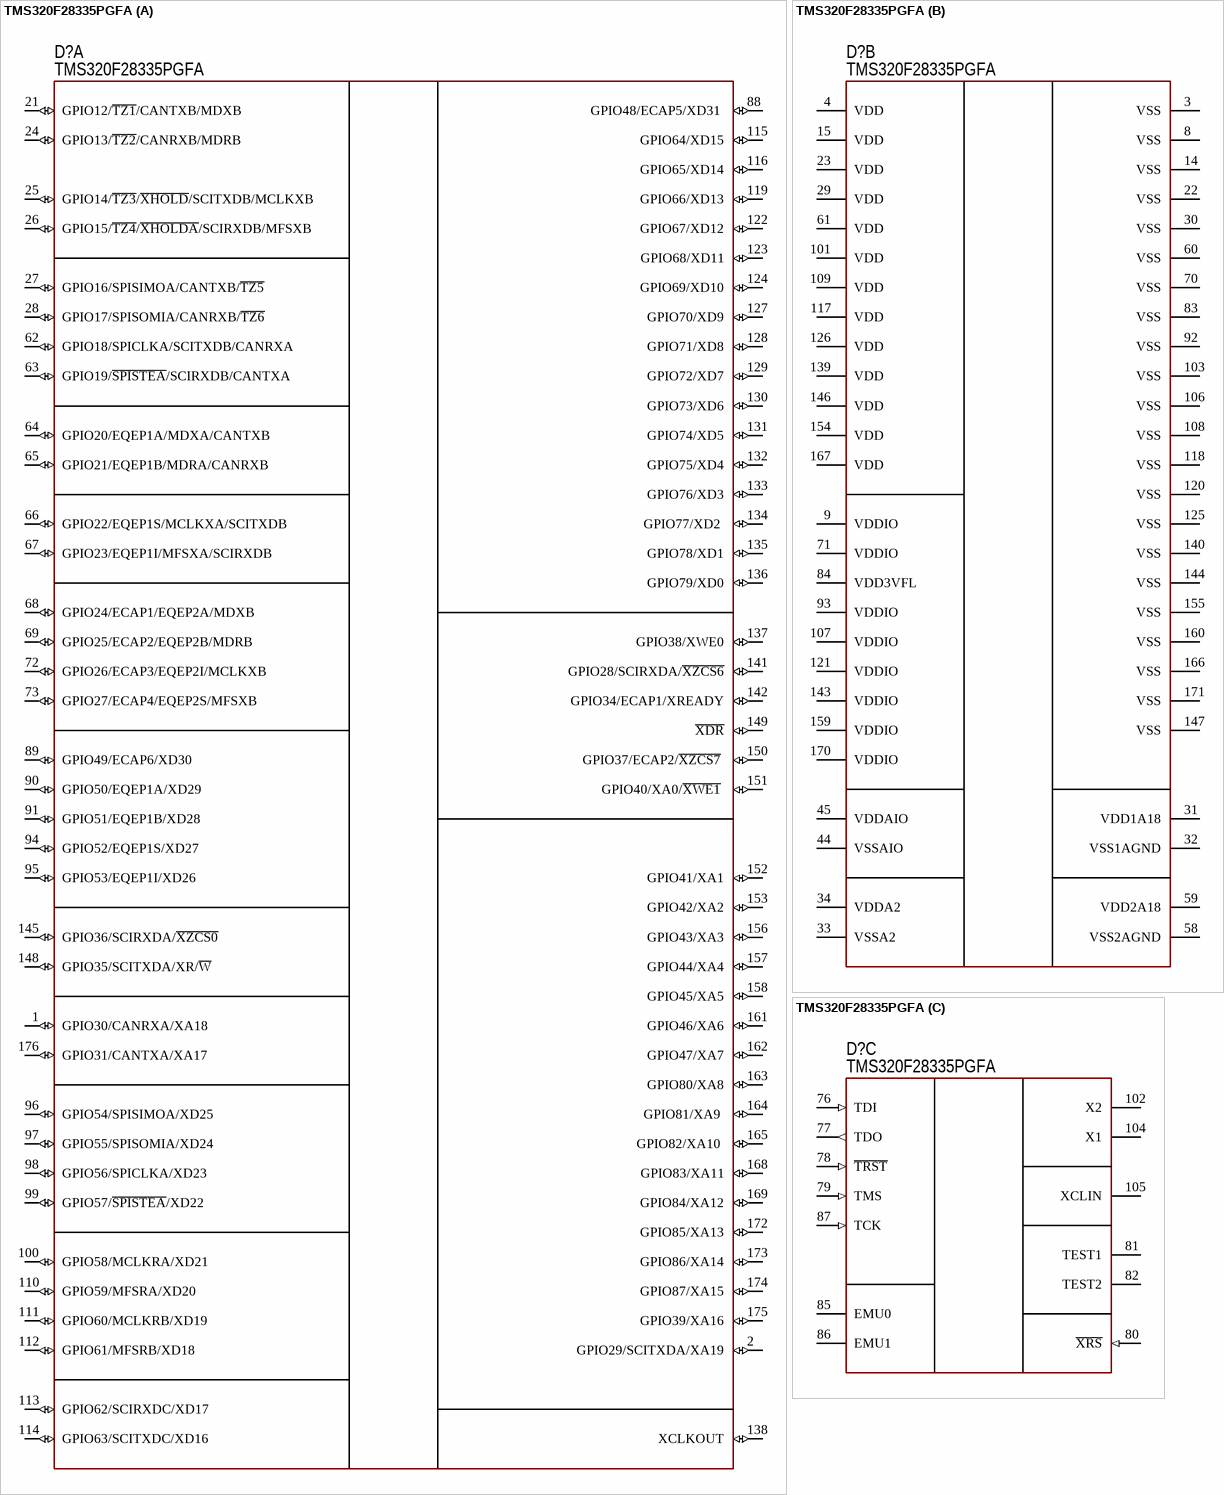
[diagram p26: symbol TMS320F28335PGFA]

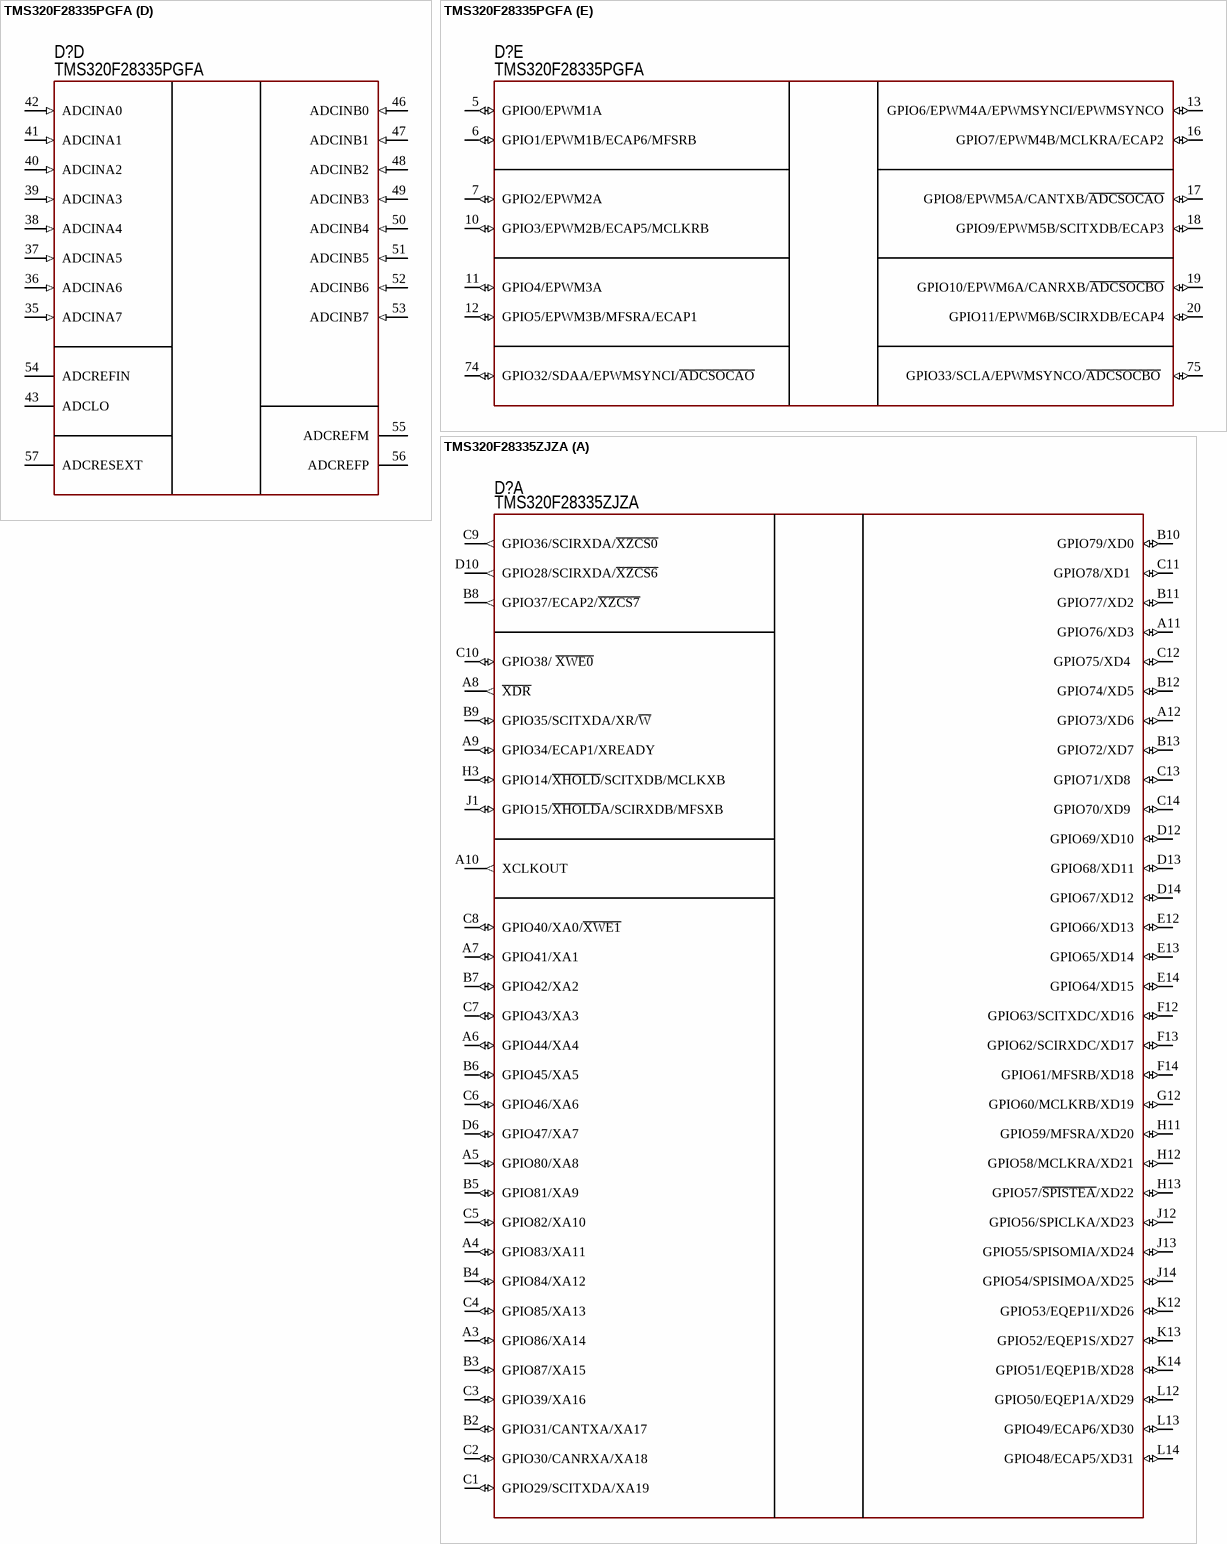
[diagram p27: symbols TMS320F28335PGFA to TMS320F28335ZJZA]

## TMS320F28335PGFA
designator D?
DSP; Manufacturer: Texas Instruments; Model: TMS320F28335PGFA; HelpURL: https://www.digikey.com/product-detail/en/texas-instruments/TMS320F28335PGFA/296-23660-ND/1907297; ComponentKind: 176-LQFP
footprint 176-LQFP (Thin QFP, 176-Leads, Body 24x24mm, Pitch 0.5mm, IPC Medium Density)
part A pins: 1 GPIO30/CANRXA/XA18 (io), 2 GPIO29/SCITXDA/XA19 (io), 21 GPIO12/~{TZ1}/CANTXB/MDXB (io), 24 GPIO13/~{TZ2}/CANRXB/MDRB (io), 25 GPIO14/~{TZ3}/~{XHOLD}/SCITXDB/MCLKXB (io), 26 GPIO15/~{TZ4}/~{XHOLDA}/SCIRXDB/MFSXB (io), 27 GPIO16/SPISIMOA/CANTXB/~{TZ5} (io), 28 GPIO17/SPISOMIA/CANRXB/~{TZ6} (io), 62 GPIO18/SPICLKA/SCITXDB/CANRXA (io), 63 GPIO19/~{SPISTEA}/SCIRXDB/CANTXA (io), 64 GPIO20/EQEP1A/MDXA/CANTXB  (io), 65 GPIO21/EQEP1B/MDRA/CANRXB (io), 66 GPIO22/EQEP1S/MCLKXA/SCITXDB (io), 67 GPIO23/EQEP1I/MFSXA/SCIRXDB (io), 68 GPIO24/ECAP1/EQEP2A/MDXB  (io), 69 GPIO25/ECAP2/EQEP2B/MDRB  (io), 72 GPIO26/ECAP3/EQEP2I/MCLKXB  (io), 73 GPIO27/ECAP4/EQEP2S/MFSXB (io), 88 GPIO48/ECAP5/XD31  (io), 89 GPIO49/ECAP6/XD30 (io), 90 GPIO50/EQEP1A/XD29 (io), 91 GPIO51/EQEP1B/XD28 (io), 94 GPIO52/EQEP1S/XD27 (io), 95 GPIO53/EQEP1I/XD26 (io), 96 GPIO54/SPISIMOA/XD25  (io), 97 GPIO55/SPISOMIA/XD24 (io), 98 GPIO56/SPICLKA/XD23 (io), 99 GPIO57/~{SPISTEA}/XD22 (io), 100 GPIO58/MCLKRA/XD21 (io), 110 GPIO59/MFSRA/XD20 (io), 111 GPIO60/MCLKRB/XD19 (io), 112 GPIO61/MFSRB/XD18 (io), 113 GPIO62/SCIRXDC/XD17 (io), 114 GPIO63/SCITXDC/XD16 (io), 115 GPIO64/XD15 (io), 116 GPIO65/XD14 (io), 119 GPIO66/XD13 (io), 122 GPIO67/XD12 (io), 123 GPIO68/XD11 (io), 124 GPIO69/XD10 (io), 127 GPIO70/XD9 (io), 128 GPIO71/XD8 (io), 129 GPIO72/XD7 (io), 130 GPIO73/XD6 (io), 131 GPIO74/XD5 (io), 132 GPIO75/XD4 (io), 133 GPIO76/XD3 (io), 134 GPIO77/XD2  (io), 135 GPIO78/XD1 (io), 136 GPIO79/XD0 (io), 137 GPIO38/XWE0 (io), 138 XCLKOUT (io), 141 GPIO28/SCIRXDA/~{XZCS6} (io), 142 GPIO34/ECAP1/XREADY (io), 145 GPIO36/SCIRXDA/~{XZCS0} (io), 148 GPIO35/SCITXDA/XR/~{W} (io), 149 ~{XDR} (io), 150 GPIO37/ECAP2/~{XZCS7}  (io), 151 GPIO40/XA0/~{XWE1}  (io), 152 GPIO41/XA1 (io), 153 GPIO42/XA2 (io), 156 GPIO43/XA3 (io), 157 GPIO44/XA4 (io), 158 GPIO45/XA5 (io), 161 GPIO46/XA6 (io), 162 GPIO47/XA7 (io), 163 GPIO80/XA8 (io), 164 GPIO81/XA9  (io), 165 GPIO82/XA10  (io), 168 GPIO83/XA11 (io), 169 GPIO84/XA12 (io), 172 GPIO85/XA13 (io), 173 GPIO86/XA14 (io), 174 GPIO87/XA15 (io), 175 GPIO39/XA16 (io), 176 GPIO31/CANTXA/XA17 (io)
part B pins: 3 VSS (power), 4 VDD (power), 8 VSS (power), 9 VDDIO (power), 14 VSS (power), 15 VDD (power), 22 VSS (power), 23 VDD (power), 29 VDD (power), 30 VSS (power), 31 VDD1A18 (power), 32 VSS1AGND (power), 33 VSSA2 (power), 34 VDDA2 (power), 44 VSSAIO (power), 45 VDDAIO (power), 58 VSS2AGND (power), 59 VDD2A18 (power), 60 VSS (power), 61 VDD (power), 70 VSS (power), 71 VDDIO (power), 83 VSS (power), 84 VDD3VFL (power), 92 VSS (power), 93 VDDIO (power), 101 VDD (power), 103 VSS (power), 106 VSS (power), 107 VDDIO (power), 108 VSS (power), 109 VDD (power), 117 VDD (power), 118 VSS (power), 120 VSS (power), 121 VDDIO (power), 125 VSS (power), 126 VDD (power), 139 VDD (power), 140 VSS (power), 143 VDDIO (power), 144 VSS (power), 146 VDD (power), 147 VSS (power), 154 VDD (power), 155 VSS (power), 159 VDDIO (power), 160 VSS (power), 166 VSS (power), 167 VDD (power), 170 VDDIO (power), 171 VSS (power)
part C pins: 76 TDI (in), 77 TDO (out), 78 ~{TRST} (in), 79 TMS (in), 80 ~{XRS} (in), 81 TEST1, 82 TEST2, 85 EMU0, 86 EMU1, 87 TCK (in), 102 X2, 104 X1, 105 XCLIN
part D pins: 35 ADCINA7 (in), 36 ADCINA6 (in), 37 ADCINA5 (in), 38 ADCINA4 (in), 39 ADCINA3 (in), 40 ADCINA2 (in), 41 ADCINA1 (in), 42 ADCINA0 (in), 43 ADCLO, 46 ADCINB0 (in), 47 ADCINB1 (in), 48 ADCINB2 (in), 49 ADCINB3 (in), 50 ADCINB4 (in), 51 ADCINB5 (in), 52 ADCINB6 (in), 53 ADCINB7 (in), 54 ADCREFIN, 55 ADCREFM, 56 ADCREFP, 57 ADCRESEXT
part E pins: 5 GPIO0/EPWM1A (io), 6 GPIO1/EPWM1B/ECAP6/MFSRB (io), 7 GPIO2/EPWM2A (io), 10 GPIO3/EPWM2B/ECAP5/MCLKRB (io), 11 GPIO4/EPWM3A (io), 12 GPIO5/EPWM3B/MFSRA/ECAP1 (io), 13 GPIO6/EPWM4A/EPWMSYNCI/EPWMSYNCO (io), 16 GPIO7/EPWM4B/MCLKRA/ECAP2 (io), 17 GPIO8/EPWM5A/CANTXB/~{ADCSOCAO} (io), 18 GPIO9/EPWM5B/SCITXDB/ECAP3 (io), 19 GPIO10/EPWM6A/CANRXB/~{ADCSOCBO} (io), 20 GPIO11/EPWM6B/SCIRXDB/ECAP4 (io), 74 GPIO32/SDAA/EPWMSYNCI/~{ADCSOCAO}  (io), 75 GPIO33/SCLA/EPWMSYNCO/~{ADCSOCBO}  (io)

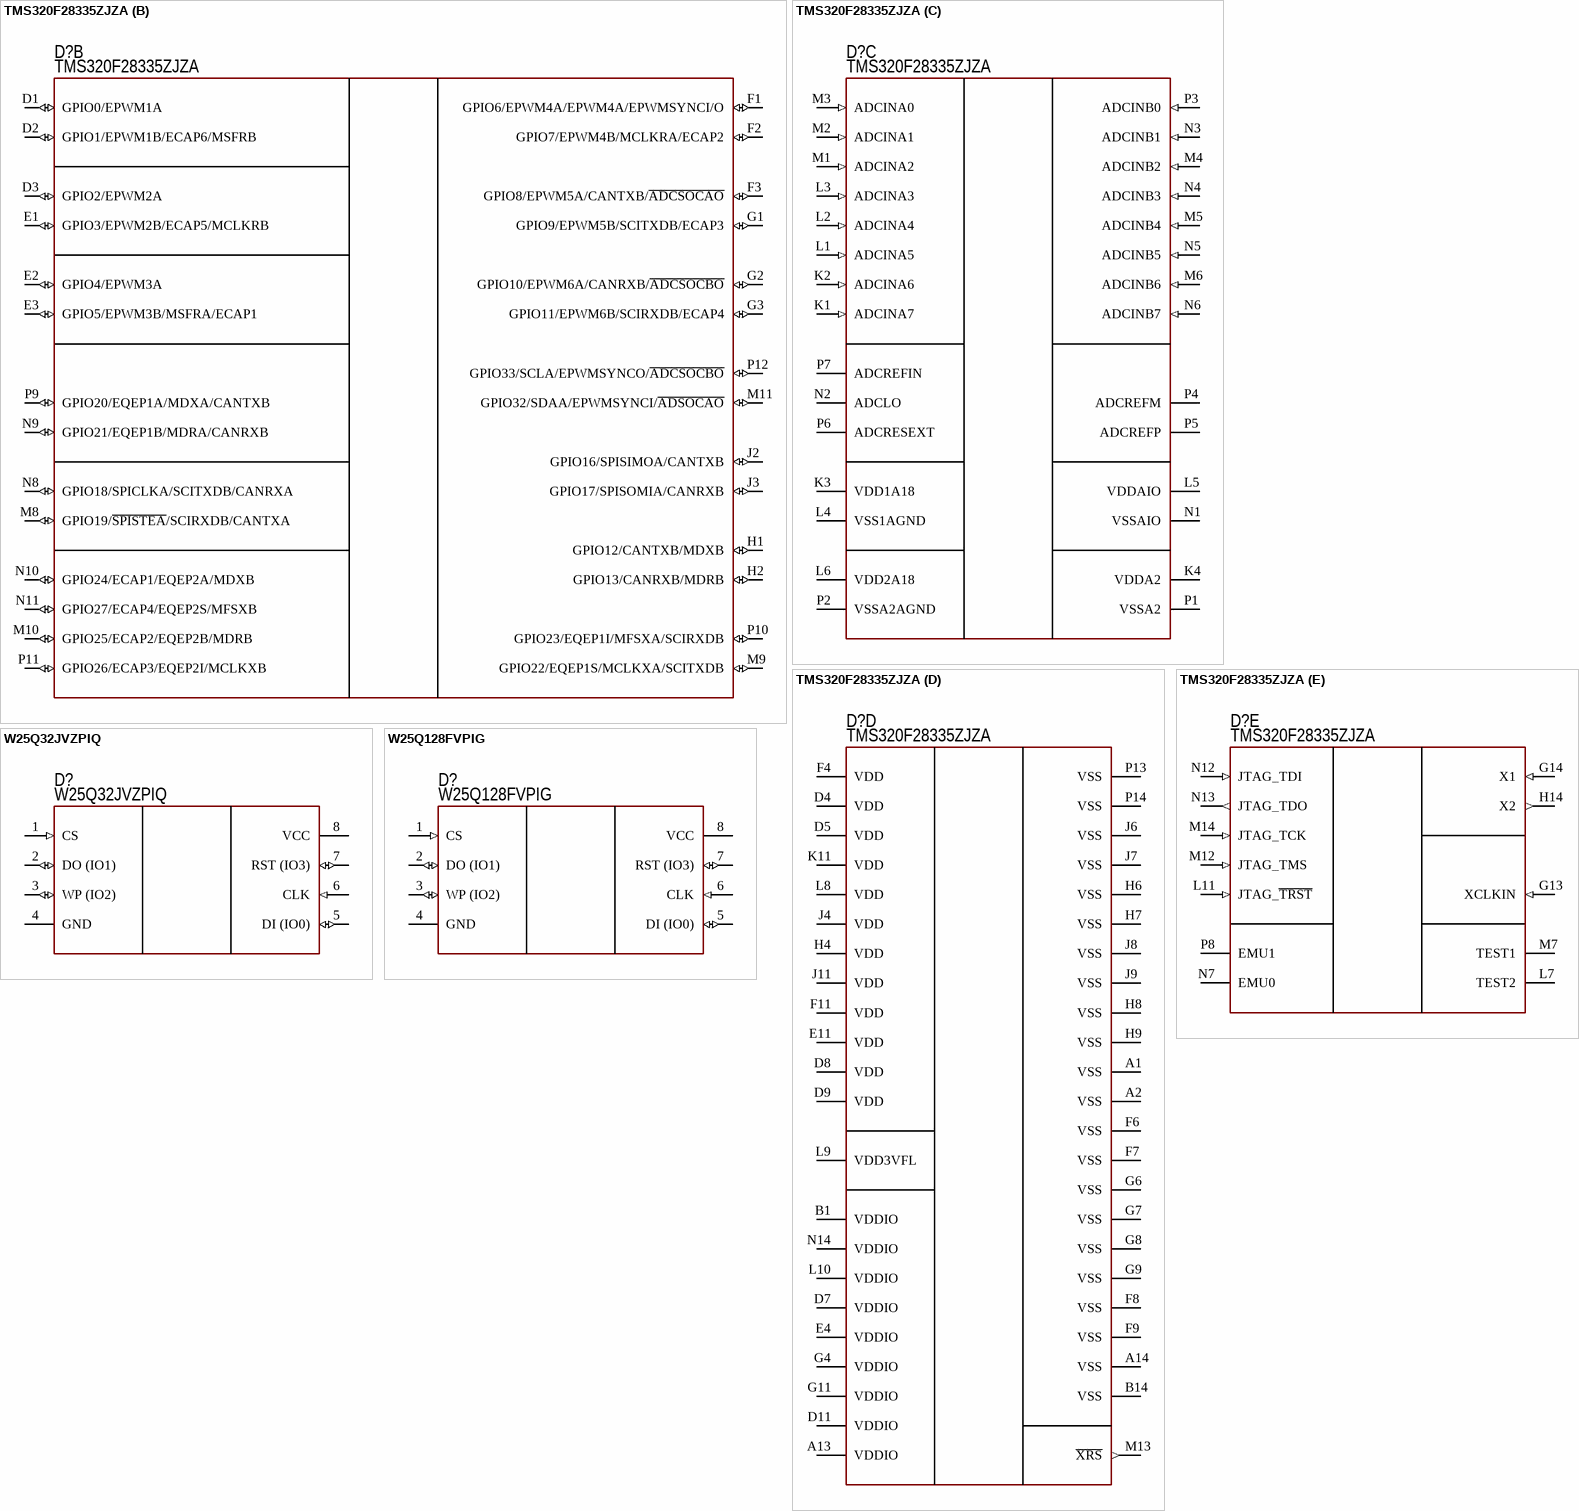
[diagram p28: symbols TMS320F28335ZJZA to W25Q128FVPIG]

## TMS320F28335ZJZA
designator D?
DSP; Manufacturer: Texas Instruments; Model: TMS320F28335ZJZA; HelpURL: https://www.digikey.com/products/en?keywords=TMS320F28335ZJZA; ComponentKind: 176-PBGA
footprint 176-PBGA
part A pins: A3 GPIO86/XA14 (io), A4 GPIO83/XA11 (io), A5 GPIO80/XA8 (io), A6 GPIO44/XA4 (io), A7 GPIO41/XA1 (io), A8 ~{XDR} (out), A9 GPIO34/ECAP1/XREADY (io), A10 XCLKOUT (out), A11 GPIO76/XD3 (io), A12 GPIO73/XD6 (io), B2 GPIO31/CANTXA/XA17 (io), B3 GPIO87/XA15 (io), B4 GPIO84/XA12 (io), B5 GPIO81/XA9 (io), B6 GPIO45/XA5 (io), B7 GPIO42/XA2 (io), B8 GPIO37/ECAP2/~{XZCS7} (out), B9 GPIO35/SCITXDA/XR/~{W} (io), B10 GPIO79/XD0 (io), B11 GPIO77/XD2 (io), B12 GPIO74/XD5 (io), B13 GPIO72/XD7 (io), C1 GPIO29/SCITXDA/XA19 (io), C2 GPIO30/CANRXA/XA18 (io), C3 GPIO39/XA16 (io), C4 GPIO85/XA13 (io), C5 GPIO82/XA10 (io), C6 GPIO46/XA6 (io), C7 GPIO43/XA3 (io), C8 GPIO40/XA0/~{XWE1} (io), C9 GPIO36/SCIRXDA/~{XZCS0}  (out), C10 GPIO38/ ~{XWE0} (io), C11 GPIO78/XD1  (io), C12 GPIO75/XD4  (io), C13 GPIO71/XD8  (io), C14 GPIO70/XD9  (io), D6 GPIO47/XA7 (io), D10 GPIO28/SCIRXDA/~{XZCS6} (out), D12 GPIO69/XD10 (io), D13 GPIO68/XD11 (io), D14 GPIO67/XD12 (io), E12 GPIO66/XD13 (io), E13 GPIO65/XD14 (io), E14 GPIO64/XD15 (io), F12 GPIO63/SCITXDC/XD16 (io), F13 GPIO62/SCIRXDC/XD17 (io), F14 GPIO61/MFSRB/XD18 (io), G12 GPIO60/MCLKRB/XD19 (io), H3 GPIO14/~{XHOLD}/SCITXDB/MCLKXB (io), H11 GPIO59/MFSRA/XD20 (io), H12 GPIO58/MCLKRA/XD21 (io), H13 GPIO57/~{SPISTEA}/XD22 (io), J1 GPIO15/~{XHOLD}A/SCIRXDB/MFSXB (io), J12 GPIO56/SPICLKA/XD23 (io), J13 GPIO55/SPISOMIA/XD24 (io), J14 GPIO54/SPISIMOA/XD25 (io), K12 GPIO53/EQEP1I/XD26 (io), K13 GPIO52/EQEP1S/XD27 (io), K14 GPIO51/EQEP1B/XD28 (io), L12 GPIO50/EQEP1A/XD29 (io), L13 GPIO49/ECAP6/XD30 (io), L14 GPIO48/ECAP5/XD31 (io)
part B pins: D1 GPIO0/EPWM1A (io), D2 GPIO1/EPWM1B/ECAP6/MSFRB (io), D3 GPIO2/EPWM2A (io), E1 GPIO3/EPWM2B/ECAP5/MCLKRB (io), E2 GPIO4/EPWM3A (io), E3 GPIO5/EPWM3B/MSFRA/ECAP1 (io), F1 GPIO6/EPWM4A/EPWM4A/EPWMSYNCI/O (io), F2 GPIO7/EPWM4B/MCLKRA/ECAP2 (io), F3 GPIO8/EPWM5A/CANTXB/~{ADCSOCAO} (io), G1 GPIO9/EPWM5B/SCITXDB/ECAP3 (io), G2 GPIO10/EPWM6A/CANRXB/~{ADCSOCBO} (io), G3 GPIO11/EPWM6B/SCIRXDB/ECAP4 (io), H1 GPIO12/CANTXB/MDXB (io), H2 GPIO13/CANRXB/MDRB (io), J2 GPIO16/SPISIMOA/CANTXB (io), J3 GPIO17/SPISOMIA/CANRXB (io), M8 GPIO19/~{SPISTEA}/SCIRXDB/CANTXA (io), M9 GPIO22/EQEP1S/MCLKXA/SCITXDB (io), M10 GPIO25/ECAP2/EQEP2B/MDRB (io), M11 GPIO32/SDAA/EPWMSYNCI/~{ADSOCAO} (io), N8 GPIO18/SPICLKA/SCITXDB/CANRXA (io), N9 GPIO21/EQEP1B/MDRA/CANRXB (io), N10 GPIO24/ECAP1/EQEP2A/MDXB (io), N11 GPIO27/ECAP4/EQEP2S/MFSXB (io), P9 GPIO20/EQEP1A/MDXA/CANTXB (io), P10 GPIO23/EQEP1I/MFSXA/SCIRXDB (io), P11 GPIO26/ECAP3/EQEP2I/MCLKXB (io), P12 GPIO33/SCLA/EPWMSYNCO/~{ADCSOCBO} (io)
part C pins: K1 ADCINA7 (in), K2 ADCINA6 (in), K3 VDD1A18 (power), K4 VDDA2 (power), L1 ADCINA5 (in), L2 ADCINA4 (in), L3 ADCINA3 (in), L4 VSS1AGND (power), L5 VDDAIO (power), L6 VDD2A18 (power), M1 ADCINA2 (in), M2 ADCINA1 (in), M3 ADCINA0 (in), M4 ADCINB2 (in), M5 ADCINB4 (in), M6 ADCINB6 (in), N1 VSSAIO (power), N2 ADCLO (power), N3 ADCINB1 (in), N4 ADCINB3 (in), N5 ADCINB5 (in), N6 ADCINB7 (in), P1 VSSA2 (power), P2 VSSA2AGND (power), P3 ADCINB0 (in), P4 ADCREFM (power), P5 ADCREFP (power), P6 ADCRESEXT (power), P7 ADCREFIN (power)
part D pins: A1 VSS (power), A2 VSS (power), A13 VDDIO (power), A14 VSS (power), B1 VDDIO (power), B14 VSS (power), D4 VDD (power), D5 VDD (power), D7 VDDIO (power), D8 VDD (power), D9 VDD (power), D11 VDDIO (power), E4 VDDIO (power), E11 VDD (power), F4 VDD (power), F6 VSS (power), F7 VSS (power), F8 VSS (power), F9 VSS (power), F11 VDD (power), G4 VDDIO (power), G6 VSS (power), G7 VSS (power), G8 VSS (power), G9 VSS (power), G11 VDDIO (power), H4 VDD (power), H6 VSS (power), H7 VSS (power), H8 VSS (power), H9 VSS (power), J4 VDD (power), J6 VSS (power), J7 VSS (power), J8 VSS (power), J9 VSS (power), J11 VDD (power), K11 VDD (power), L8 VDD (power), L9 VDD3VFL (power), L10 VDDIO (power), M13 ~{XRS} (out), N14 VDDIO (power), P13 VSS (power), P14 VSS (power)
part E pins: G13 XCLKIN (in), G14 X1 (in), H14 X2 (out), L7 TEST2 (hiz), L11 JTAG_~{TRST} (in), M7 TEST1 (hiz), M12 JTAG_TMS (in), M14 JTAG_TCK (in), N7 EMU0 (hiz), N12 JTAG_TDI (in), N13 JTAG_TDO (out), P8 EMU1 (hiz)

## W25Q32JVZPIQ
designator D?
Flash; Manufacturer: Winbond Electronics; Model: W25Q32JVZPIQ; HelpURL: https://www.digikey.com/product-detail/en/winbond-electronics/W25Q32JVZPIQ/W25Q32JVZPIQ-ND/6167525; ComponentKind: 8-WSON
footprint 8-WSON (5x6 mm) (SON, 8-Leads, Body 5,00x6,00mm, Pitch 1,27mm, Thermal Pad 4,30x3,40mm, IPC Medium Density)
pins: 1 CS (in), 2 DO (IO1) (io), 3 WP (IO2) (io), 4 GND (power), 5 DI (IO0) (io), 6 CLK (in), 7 RST (IO3) (io), 8 VCC (power)

## W25Q128FVPIG
designator D?
Flash; Manufacturer: Winbond Electronics; Model: W25Q128FVPIG; HelpURL: https://www.digikey.com/product-detail/en/winbond-electronics/W25Q128FVPIG/W25Q128FVPIG-ND/4037386; ComponentKind: 8-WSON
footprint 8-WSON (5x6 mm) (SON, 8-Leads, Body 5,00x6,00mm, Pitch 1,27mm, Thermal Pad 4,30x3,40mm, IPC Medium Density)
pins: 1 CS (in), 2 DO (IO1) (io), 3 WP (IO2) (io), 4 GND (power), 5 DI (IO0) (io), 6 CLK (in), 7 RST (IO3) (io), 8 VCC (power)